# Altium schematic symbol library TCRT5000L.SchLib: 1 symbol
Pins are listed as number, name and electrical type; pins without a type are passive.

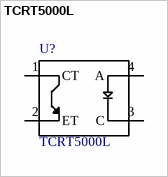
[diagram p0: symbol TCRT5000L]

## TCRT5000L
designator U?
TCRT5000 Series 940 nm 100 mA 60 mA Transistor Output Reflective Optical Sensor; MF: Vishay Semiconductor; Price: 0.64 USD; SnapEDA_Link: https://www.snapeda.com/parts/TCRT5000L/Vishay%20Semiconductor%20Opto%20Division/view-part/?ref=snap; MP: TCRT5000L; Package: PCB Mount Vishay; Availability: Good; Value: *
footprint XDCR_TCRT5000L
pins: 1 CT, 2 ET, 3 C, 4 A